# EAGLE library part ADM3101EARQZ-REEL (library ADM310)
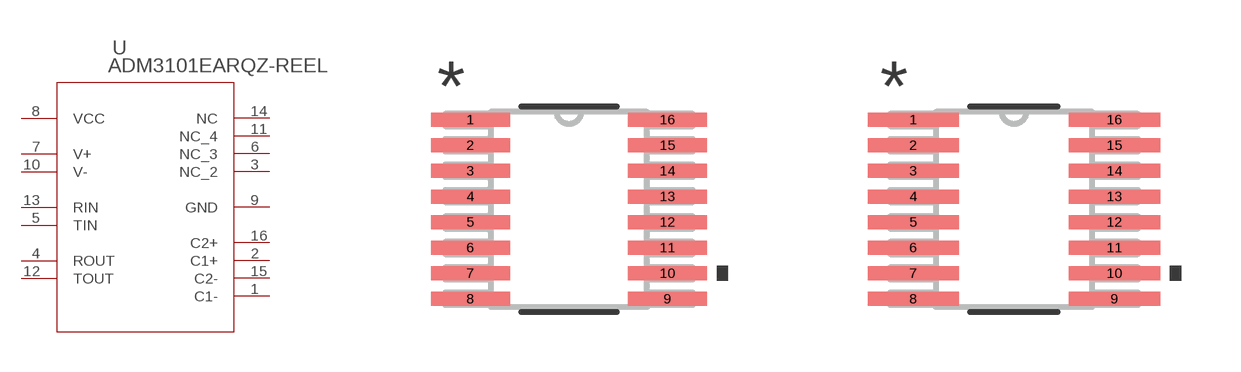
[diagram p1: symbol with the pads of RQ_16_ADI; footprints RQ_16_ADI, RQ_16_ADI-M]

Designator prefix U

## ADM3101EARQZ-REEL (COPYRIGHT: Copyright (C) 2021 Ultra Librarian. All rights reserved.; DIGI-KEY_PART_NUMBER_1: ADM3101EARQZ-REELCT-ND; DIGI-KEY_PART_NUMBER_2: ADM3101EARQZ-REELDKR-ND; DIGI-KEY_PART_NUMBER_3: ADM3101EARQZ-REELTR-ND; MANUFACTURER_PART_NUMBER: ADM3101EARQZ-REEL; MFR_NAME: Analog Devices Inc)  [RQ_16_ADI]
1  C1-  pas
2  C1+  pas
3  NC_2  pas
4  ROUT  pas
5  TIN  pas
6  NC_3  pas
7  V+  pas
8  VCC  pas
9  GND  pas
10  V-  pas
11  NC_4  pas
12  TOUT  pas
13  RIN  pas
14  NC  pas
15  C2-  pas
16  C2+  pas

## ADM3101EARQZ-REELRQ_16_ADI-M (COPYRIGHT: Copyright (C) 2021 Ultra Librarian. All rights reserved.; DIGI-KEY_PART_NUMBER_1: ADM3101EARQZ-REELCT-ND; DIGI-KEY_PART_NUMBER_2: ADM3101EARQZ-REELDKR-ND; DIGI-KEY_PART_NUMBER_3: ADM3101EARQZ-REELTR-ND; MANUFACTURER_PART_NUMBER: ADM3101EARQZ-REEL; MFR_NAME: Analog Devices Inc)  [RQ_16_ADI-M]
Pads as for RQ_16_ADI

## ADM3101EARQZ-REELRQ_16_ADI-L (COPYRIGHT: Copyright (C) 2021 Ultra Librarian. All rights reserved.; DIGI-KEY_PART_NUMBER_1: ADM3101EARQZ-REELCT-ND; DIGI-KEY_PART_NUMBER_2: ADM3101EARQZ-REELDKR-ND; DIGI-KEY_PART_NUMBER_3: ADM3101EARQZ-REELTR-ND; MANUFACTURER_PART_NUMBER: ADM3101EARQZ-REEL; MFR_NAME: Analog Devices Inc)  [RQ_16_ADI-L]
Pads as for RQ_16_ADI

## Footprint RQ_16_ADI (pad centres in mm)
smd 1.981 x 0.351: 1 -2.465,2.24; 2 -2.465,1.6; 3 -2.465,0.96; 4 -2.465,0.32; 5 -2.465,-0.32; 6 -2.465,-0.96; 7 -2.465,-1.6; 8 -2.465,-2.24; 9 2.465,-2.24; 10 2.465,-1.6; 11 2.465,-0.96; 12 2.465,-0.32; 13 2.465,0.32; 14 2.465,0.96; 15 2.465,1.6; 16 2.465,2.24

## Footprint RQ_16_ADI-M (pad centres in mm)
smd 2.286 x 0.351: 1 -2.516,2.24; 2 -2.516,1.6; 3 -2.516,0.96; 4 -2.516,0.32; 5 -2.516,-0.32; 6 -2.516,-0.96; 7 -2.516,-1.6; 8 -2.516,-2.24; 9 2.516,-2.24; 10 2.516,-1.6; 11 2.516,-0.96; 12 2.516,-0.32; 13 2.516,0.32; 14 2.516,0.96; 15 2.516,1.6; 16 2.516,2.24

## Footprint RQ_16_ADI-L (pad centres in mm)
smd 1.676 x 0.3: 1 -2.414,2.24; 2 -2.414,1.6; 3 -2.414,0.96; 4 -2.414,0.32; 5 -2.414,-0.32; 6 -2.414,-0.96; 7 -2.414,-1.6; 8 -2.414,-2.24; 9 2.414,-2.24; 10 2.414,-1.6; 11 2.414,-0.96; 12 2.414,-0.32; 13 2.414,0.32; 14 2.414,0.96; 15 2.414,1.6; 16 2.414,2.24